# Altium schematic symbol library X_5_PIN_MINI_USB.Schlib: 1 symbol
Pins are listed as number, name and electrical type; pins without a type are passive.

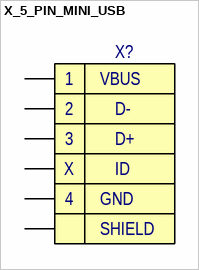
[diagram p0: symbol X_5_PIN_MINI_USB]

## X_5_PIN_MINI_USB
designator X?
pins: 1 "RED", 2 "WHITE", 3 "GREEN", 4 "BLACK", SHIELD, X
text: VBUS; D-; D+; ID; GND